# Altium footprint library PcbLib1.1.PcbLib: 79 footprints (part 4 of 5)
Each footprint in its own frame and in the unit in brackets; x right, y up, seen from the top. Pads: shape width x height; smd on the part's side, far side on the other; paste and mask are expansions set on the pad; w line width, h text height; cw(c..) or ccw(c..) is an arc to the next point about the centre after c.
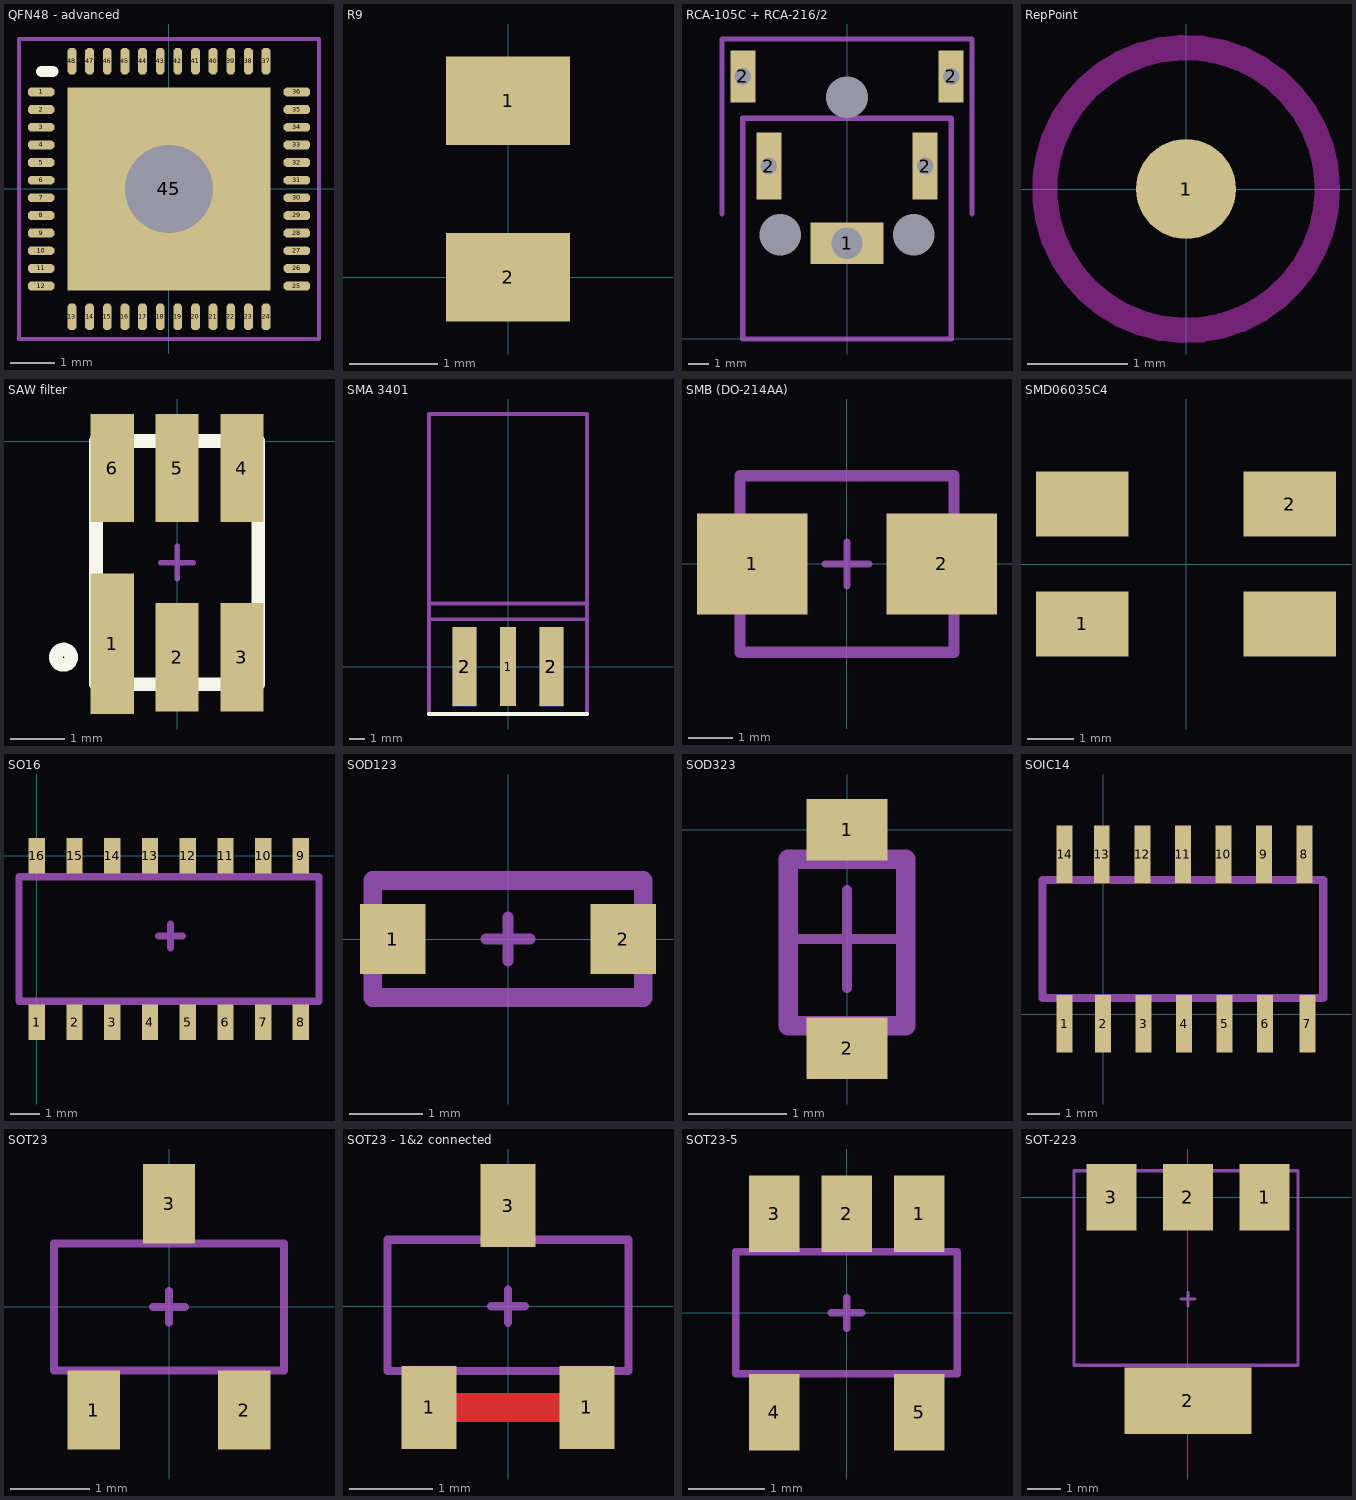
[diagram p3: the footprints below, top view; thin cyan lines are the x and y axes]

## QFN48 - advanced [mm]
height 2
pads (49):
  oct 0.6x0.2 smd: 1(-2.9,2.2) 2(-2.9,1.8) 3(-2.9,1.4) 4(-2.9,1) 5(-2.9,0.6) 6(-2.9,0.2) 7(-2.9,-0.2) 8(-2.9,-0.6) 9(-2.9,-1) 10(-2.9,-1.4) 11(-2.9,-1.8) 12(-2.9,-2.2) 25(2.9,-2.2) 26(2.9,-1.8) 27(2.9,-1.4) 28(2.9,-1) 29(2.9,-0.6) 30(2.9,-0.2) 31(2.9,0.2) 32(2.9,0.6) 33(2.9,1) 34(2.9,1.4) 35(2.9,1.8) 36(2.9,2.2)
  oct 0.2x0.6 smd: 13(-2.2,-2.9) 14(-1.8,-2.9) 15(-1.4,-2.9) 16(-1,-2.9) 17(-0.6,-2.9) 18(-0.2,-2.9) 19(0.2,-2.9) 20(0.6,-2.9) 21(1,-2.9) 22(1.4,-2.9) 23(1.8,-2.9) 24(2.2,-2.9) 37(2.2,2.9) 38(1.8,2.9) 39(1.4,2.9) 40(1,2.9) 41(0.6,2.9) 42(0.2,2.9) 43(-0.2,2.9) 44(-0.6,2.9) 45(-1,2.9) 46(-1.4,2.9) 47(-1.8,2.9) 48(-2.2,2.9)
  rect 4.6x4.6 hole 2: 45(0,0)
Top Overlay:
  lines w0.25: -2.89,2.66 -2.63,2.66
Mechanical 15:
  lines w0.1: -3.4,-3.4 3.4,-3.4 3.4,3.4 -3.4,3.4 -3.4,-3.4

## R9 [mm]
pads (2):
  rect 1.4x1 smd: 1(0,2) 2(0,0)

## RCA-105C + RCA-216/2 [mm]
height 12
pads (8):
  rect 3.5x2 hole 1.5 square: 1(0,4.6)
  rect 1.2x2.5 hole 0.8 square: 2(-5,12.6) 2(5,12.6)
  rect 1.2x3.2 hole 0.8 square: 2(-3.75,8.3) 2(3.75,8.3)
  round 0 hole 2 unplated: 2(-3.2,5) 2(0,11.6) 2(3.2,5)
Mechanical 15:
  lines w0.25: -6,6 -6,14.4 6,14.4 6,6 ; -5,0 5,0 5,10.6 -5,10.6 -5,0

## RepPoint [mm]
pads (2):
  round 1 smd: 1(0,0)
  round 3 on Top Solder: 1(0,0)
Keep-Out Layer:
  circle w0.254: c0,0 r1.414

## SAW filter [mm]
height 1
pads (6):
  rect 0.8x2.6 smd: 1(-1.2,-3.75)
  rect 0.8x2 smd: 2(0,-4) 3(1.2,-4) 4(1.2,-0.5) 5(0,-0.5) 6(-1.2,-0.5)
Top Overlay:
  circle w0.254: c-2.1,-4 r0.141
  lines w0.254: -1.5,-4.5 1.5,-4.5 1.5,0 -1.5,0 -1.5,-4.5
Mechanical 15:
  lines w0.1: -0.3,-2.25 0.3,-2.25 ; 0,-2.55 0,-1.95

## SMA 3401 [mm]
height 4
pads (5):
  rect 1x5 smd: 1(0,0)
  rect 1.5x5 smd: 2(-2.75,0) 2(2.75,0)
  rect 1.5x5 smd far side: 2(-2.75,0) 2(2.75,0)
Top Overlay:
  lines w0.25: -5,-3 5,-3
Mechanical 15:
  lines w0.25: -5,-3 -5,4 ; -5,3 5,3 ; 5,-3 5,3 ; -5,4 5,4 ; -5,4 -5,16 5,16 5,4 ; 5,3 5,4

## SMB (DO-214AA) [mm]
height 2.62
pads (2):
  rect 2.5x2.3 smd: 1(-2.15,0) 2(2.15,0)
Mechanical 15:
  lines w0.15: -0.5,0 0.5,0 ; 0,-0.5 0,0.5
  lines w0.254: -2.425,-2 2.425,-2 2.425,2 -2.425,2 -2.425,-2

## SMD06035C4 [mm]
height 2
pads (4):
  rect 2x1.4 smd: 1(-2.25,-1.3) 2(2.25,1.3) ""(-2.25,1.3) ""(2.25,-1.3)

## SO16 [mm]
height 1
pads (16):
  rect 0.55x1.2 smd: 1(0,-5.6) 2(1.27,-5.6) 3(2.54,-5.6) 4(3.81,-5.6) 5(5.08,-5.6) 6(6.35,-5.6) 7(7.62,-5.6) 8(8.89,-5.6) 9(8.89,0) 10(7.62,0) 11(6.35,0) 12(5.08,0) 13(3.81,0) 14(2.54,0) 15(1.27,0) 16(0,0)
Mechanical 15:
  lines w0.25: 4.1,-2.7 4.9,-2.7 ; 4.5,-3.1 4.5,-2.3 ; -0.6,-4.9 -0.6,-0.7 9.5,-0.7 9.5,-4.9 -0.6,-4.9

## SOD123 [mm]
height 1.05
pads (2):
  rect 0.9x0.95 smd: 1(-1.575,0) 2(1.575,0)
Mechanical 15:
  lines w0.15: -0.3,0 0.3,0 ; 0,-0.3 0,0.3
  lines w0.254: -1.85,-0.8 1.85,-0.8 1.85,0.8 -1.85,0.8 -1.85,-0.8

## SOD323 [mm]
height 1.1
pads (2):
  rect 0.83x0.63 smd: 1(0,0) 2(0,-2.23)
Mechanical 15:
  lines w0.1: -0.5,-1.115 0.5,-1.115 ; 0,-1.615 0,-0.615
  lines w0.2: -0.6,-2 0.6,-2 0.6,-0.3 -0.6,-0.3 -0.6,-2

## SOIC14 [mm]
pads (14):
  rect 0.5x1.8 smd: 1(-1.2,-0.3) 2(0,-0.3) 3(1.27,-0.3) 4(2.54,-0.3) 5(3.81,-0.3) 6(5.08,-0.3) 7(6.4,-0.3) 8(6.31,5) 9(5.04,5) 10(3.77,5) 11(2.5,5) 12(1.23,5) 13(-0.04,5) 14(-1.2,5)
Mechanical 1:
  lines w0.254: -1.9,0.5 -1.9,4.2 6.9,4.2 6.9,0.5 -1.9,0.5

## SOT23 [mm]
height 1.1
pads (3):
  rect 0.66x1 smd: 1(-0.95,-1.3) 2(0.95,-1.3) 3(0,1.3)
Top Solder:
  rectangle: 0.47,-1.98 1.42,-0.66
  rectangle: -1.43,-1.98 -0.48,-0.66
Mechanical 15:
  lines w0.1: -0.2,0 0.2,0 ; 0,-0.2 0,0.2 ; -1.45,-0.8 -1.45,0.8 1.45,0.8 1.45,-0.8 -1.45,-0.8

## SOT23 - 1&2 connected [mm]
height 1.1
pads (3):
  rect 0.66x1 smd: 1(-0.95,-1.22) 1(0.95,-1.22) 3(0,1.21)
Top Layer:
  lines w0.35: -0.95,-1.22 0.95,-1.22
Top Solder:
  rectangle: -1.43,-1.9 -0.48,-0.58
  rectangle: 0.47,-1.9 1.42,-0.58
Mechanical 15:
  lines w0.1: -0.2,0 0.2,0 ; 0,-0.2 0,0.2 ; -1.45,-0.78 1.45,-0.78 1.45,0.8 -1.45,0.8 -1.45,-0.78

## SOT23-5 [mm]
height 1.1
pads (5):
  rect 0.66x1 smd: 1(0.95,1.3) 2(0,1.3) 3(-0.95,1.3) 4(-0.95,-1.3) 5(0.95,-1.3)
Top Solder:
  rectangle: -1.41,0.63 1.46,1.95
  rectangle: 0.47,-1.98 1.42,-0.66
  rectangle: -1.43,-1.98 -0.48,-0.66
Mechanical 15:
  lines w0.1: -0.2,0 0.2,0 ; 0,-0.2 0,0.2 ; -1.45,-0.8 -1.45,0.8 1.45,0.8 1.45,-0.8 -1.45,-0.8

## SOT-223 [mm]
height 1.8
pads (4):
  rect 1.5x2 smd: 1(2.3,0) 2(0,0) 3(-2.3,0)
  rect 3.8x2 smd: 2(0,-6.1)
Mechanical 15:
  lines w0.1: -0.2,-3.05 0.2,-3.05 ; 0,-3.25 0,-2.85 ; -3.42,-5.04 -3.42,0.8 3.3,0.8 3.3,-5.04 -3.42,-5.04